# EAGLE library part YC248 (library digital_dash)
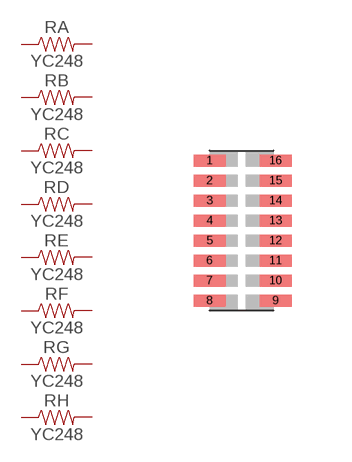
[diagram p11: symbol with the pads of YC248; footprint YC248]

Designator prefix R; gates A=RESISTOR B=RESISTOR C=RESISTOR D=RESISTOR E=RESISTOR F=RESISTOR G=RESISTOR H=RESISTOR

## YC248, YC248-JR-0710KL (TOLERANCE: 5%; VALUE: 10k), YC248-JR-0715KL (TOLERANCE: 5%; VALUE: 15k), YC248-JR-078K2L (TOLERANCE: 5%; VALUE: 8.2k)  [YC248]
1  A:1  pas
2  B:1  pas
3  C:1  pas
4  D:1  pas
5  E:1  pas
6  F:1  pas
7  G:1  pas
8  H:1  pas
9  H:2  pas
10  G:2  pas
11  F:2  pas
12  E:2  pas
13  D:2  pas
14  C:2  pas
15  B:2  pas
16  A:2  pas

## Footprint YC248 (pad centres in mm)
smd 0.8 x 0.3: 1 -0.8,1.75; 2 -0.8,1.25; 3 -0.8,0.75; 4 -0.8,0.25; 5 -0.8,-0.25; 6 -0.8,-0.75; 7 -0.8,-1.25; 8 -0.8,-1.75; 9 0.85,-1.75; 10 0.85,-1.25; 11 0.85,-0.75; 12 0.85,-0.25; 13 0.85,0.25; 14 0.85,0.75; 15 0.85,1.25; 16 0.85,1.75